# Altium schematic symbol library DataConvIC.SchLib: 1 symbol
Pins are listed as number, name and electrical type; pins without a type are passive.

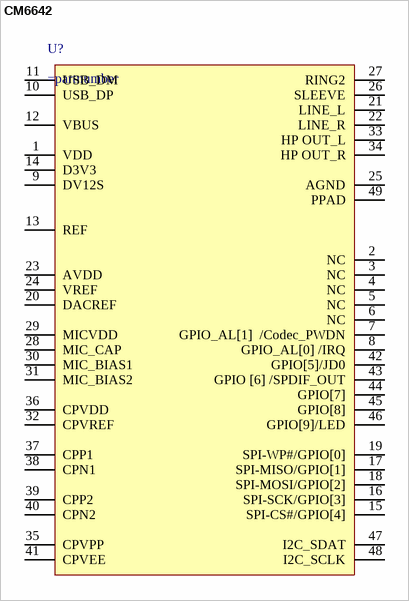
[diagram p0: symbol CM6642]

## CM6642
designator U?
pins: 1 VDD, 2 NC, 3 NC, 4 NC, 5 NC, 6 NC, 7 GPIO_AL[1]  /Codec_PWDN, 8 GPIO_AL[0] /IRQ, 9 DV12S, 10 USB_DP, 11 USB_DM, 12 VBUS, 13 REF, 14 D3V3, 15 SPI-CS#/GPIO[4], 16 SPI-SCK/GPIO[3], 17 SPI-MISO/GPIO[1], 18 SPI-MOSI/GPIO[2], 19 SPI-WP#/GPIO[0], 20 DACREF, 21 LINE_L, 22 LINE_R, 23 AVDD, 24 VREF, 25 AGND, 26 SLEEVE, 27 RING2, 28 MIC_CAP, 29 MICVDD, 30 MIC_BIAS1, 31 MIC_BIAS2, 32 CPVREF, 33 HP OUT_L, 34 HP OUT_R, 35 CPVPP, 36 CPVDD, 37 CPP1, 38 CPN1, 39 CPP2, 40 CPN2, 41 CPVEE, 42 GPIO[5]/JD0, 43 GPIO [6] /SPDIF_OUT, 44 GPIO[7], 45 GPIO[8], 46 GPIO[9]/LED, 47 I2C_SDAT, 48 I2C_SCLK, 49 PPAD